# Altium footprint library DIP-CN  0607.PcbLib: 329 footprints (part 17 of 21)
Each footprint in its own frame and in the unit in brackets; x right, y up, seen from the top. Pads: shape width x height; smd on the part's side, far side on the other; paste and mask are expansions set on the pad; w line width, h text height; cw(c..) or ccw(c..) is an arc to the next point about the centre after c.
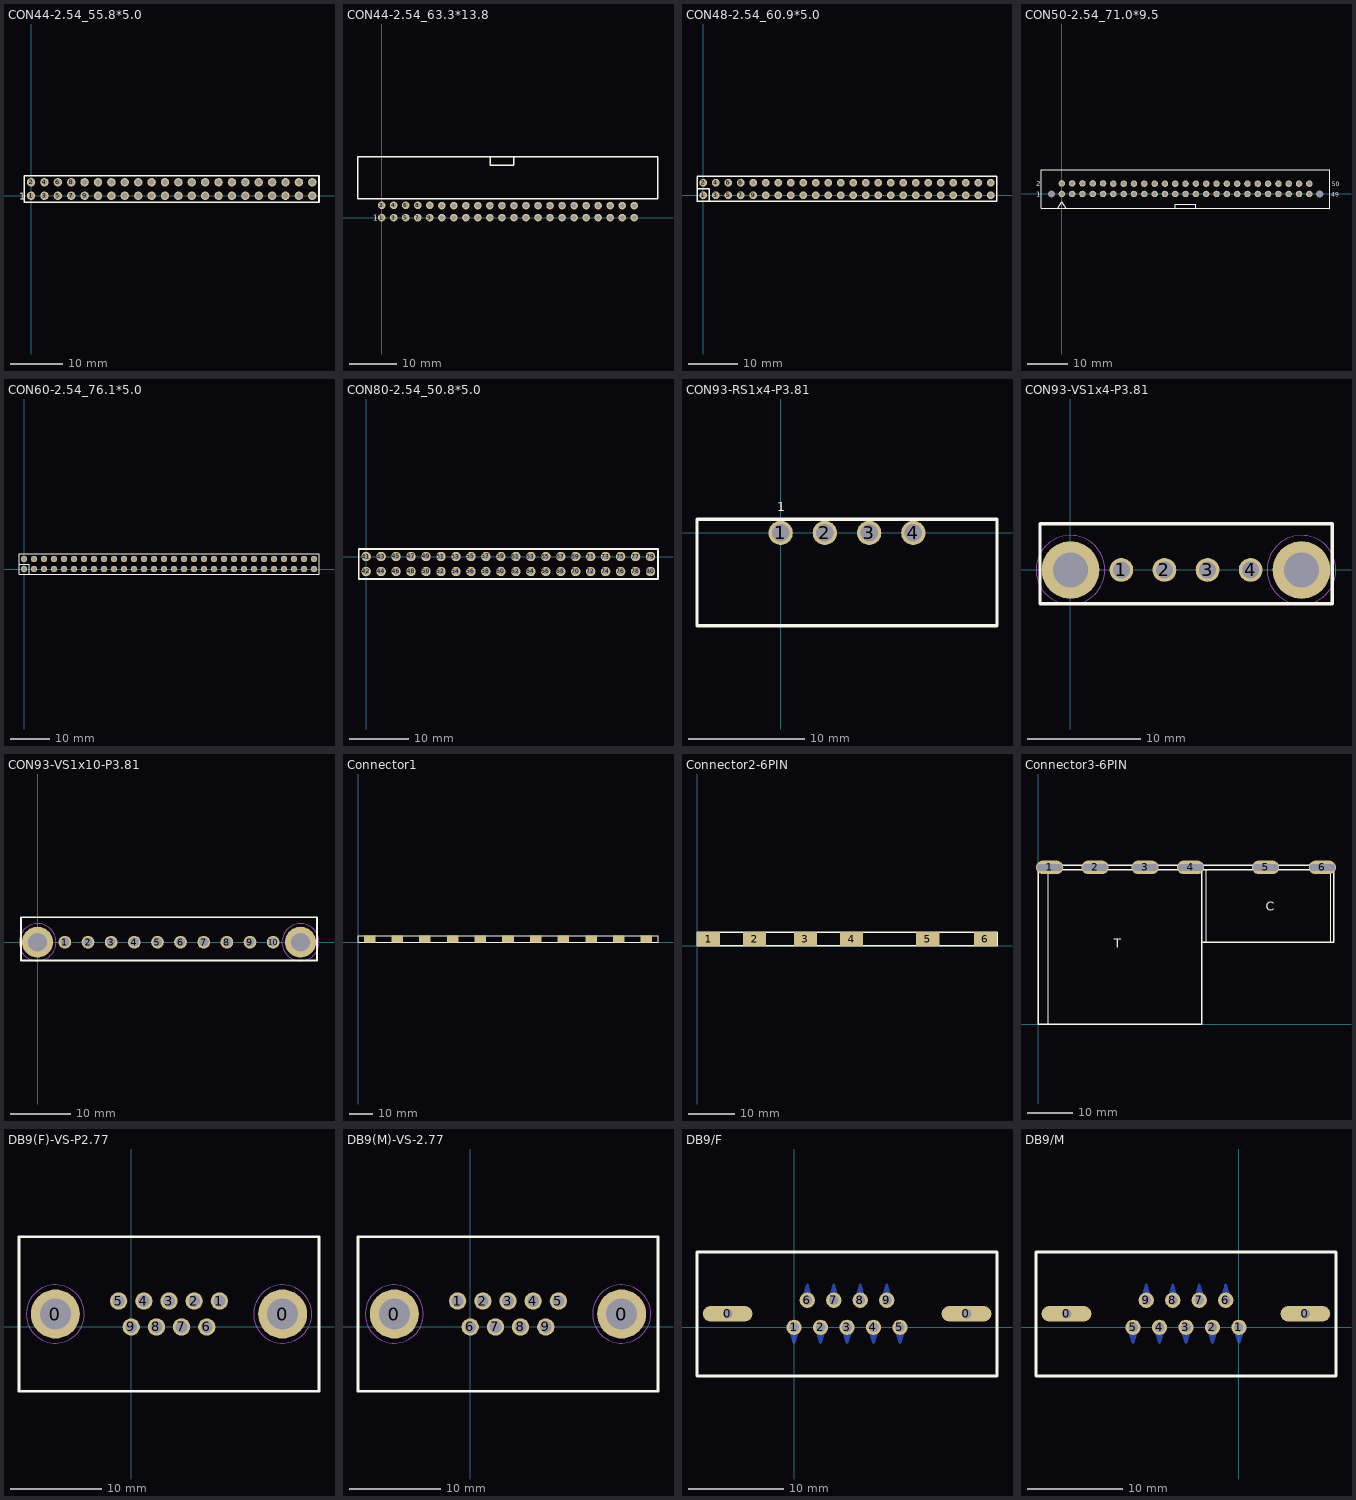
[diagram p16: the footprints below, top view; thin cyan lines are the x and y axes]

## CON44-2.54_55.8*5.0 [mm]
pads (44):
  round 1.6 hole 1: 1(0,0) 2(0,2.54) 3(2.54,0) 4(2.54,2.54) 5(5.08,0) 6(5.08,2.54) 7(7.62,0) 8(7.62,2.54) 9(10.16,0) 10(10.16,2.54) 11(12.7,0) 12(12.7,2.54) 13(15.24,0) 14(15.24,2.54) 15(17.779,-0.003) 16(17.779,2.537) 17(20.319,-0.003) 18(20.319,2.537) 19(22.859,-0.003) 20(22.859,2.537) 21(25.4,0) 22(25.4,2.54) 23(27.94,0) 24(27.94,2.54) 25(30.48,0) 26(30.48,2.54) 27(33.02,0) 28(33.02,2.54) 29(35.56,0) 30(35.56,2.54) 31(38.1,0) 32(38.1,2.54) 33(40.64,0) 34(40.64,2.54) 35(43.179,-0.003) 36(43.179,2.537) 37(45.719,-0.003) 38(45.719,2.537) 39(48.259,-0.003) 40(48.259,2.537) 41(50.8,0) 42(50.8,2.54) 43(53.34,0) 44(53.34,2.54)
TopOverlay:
  lines w0.3: -1.27,-1.27 -1.27,3.81 54.61,3.81 54.61,-1.27 -1.27,-1.27
  text "1" at -2.286,-0.762 h1.3

## CON44-2.54_63.3*13.8 [mm]
pads (44):
  round 1.6 hole 1: 1(0,0) 2(0,2.6) 3(2.54,0) 4(2.54,2.6) 5(5.08,0) 6(5.08,2.6) 7(7.62,0) 8(7.62,2.6) 9(10.16,0) 10(10.16,2.6) 11(12.7,0) 12(12.7,2.54) 13(15.24,0) 14(15.24,2.54) 15(17.78,0) 16(17.78,2.54) 17(20.32,0) 18(20.32,2.54) 19(22.86,0) 20(22.86,2.54) 21(25.4,0) 22(25.4,2.54) 23(27.94,0) 24(27.94,2.54) 25(30.48,0) 26(30.48,2.54) 27(33.02,0) 28(33.02,2.54) 29(35.56,0) 30(35.56,2.54) 31(38.1,0) 32(38.1,2.54) 33(40.64,0) 34(40.64,2.54) 35(43.18,0) 36(43.18,2.54) 37(45.72,0) 38(45.72,2.54) 39(48.26,0) 40(48.26,2.54) 41(50.8,0) 42(50.8,2.54) 43(53.34,0) 44(53.34,2.54)
TopOverlay:
  lines w0.3: 22.9,12.9 22.9,11.1 27.9,11.1 27.9,12.9 ; -5,4 58.36,4 58.36,12.9 -5,12.9 -5,4
  text "1" at -1.905,-0.635 h1.3

## CON48-2.54_60.9*5.0 [mm]
pads (48):
  round 1.6 hole 1: 1(0,0) 2(0,2.54) 3(2.54,0) 4(2.54,2.54) 5(5.08,0) 6(5.08,2.54) 7(7.62,0) 8(7.62,2.54) 9(10.16,0) 10(10.16,2.54) 11(12.7,0) 12(12.7,2.54) 13(15.24,0) 14(15.24,2.54) 15(17.78,0) 16(17.78,2.54) 17(20.32,0) 18(20.32,2.54) 19(22.86,0) 20(22.86,2.54) 21(25.4,0) 22(25.4,2.54) 23(27.94,0) 24(27.94,2.54) 25(30.48,0) 26(30.48,2.54) 27(33.02,0) 28(33.02,2.54) 29(35.56,0) 30(35.56,2.54) 31(38.1,0) 32(38.1,2.54) 33(40.64,0) 34(40.64,2.54) 35(43.18,0) 36(43.18,2.54) 37(45.72,0) 38(45.72,2.54) 39(48.26,0) 40(48.26,2.54) 41(50.8,0) 42(50.8,2.54) 43(53.34,0) 44(53.34,2.54) 45(55.88,0) 46(55.88,2.54) 47(58.42,0) 48(58.42,2.54)
TopOverlay:
  lines w0.3: -1.27,1.3 1.25,1.3 1.25,-1.245 ; -1.27,-1.27 -1.27,3.81 59.69,3.81 59.69,-1.27 -1.27,-1.27

## CON50-2.54_71.0*9.5 [mm]
pads (52):
  round 1.5 hole 1.8 unplated: 0(-2.54,0) 0(63.5,0)
  round 1.6 hole 1: 1(0,0) 2(0,2.6) 3(2.54,0) 4(2.54,2.6) 5(5.08,0) 6(5.08,2.6) 7(7.62,0) 8(7.62,2.6) 9(10.16,0) 10(10.16,2.6) 11(12.7,0) 12(12.7,2.54) 13(15.24,0) 14(15.24,2.54) 15(17.78,0) 16(17.78,2.54) 17(20.32,0) 18(20.32,2.54) 19(22.86,0) 20(22.86,2.54) 21(25.4,0) 22(25.4,2.54) 23(27.94,0) 24(27.94,2.54) 25(30.48,0) 26(30.48,2.54) 27(33.02,0) 28(33.02,2.54) 29(35.56,0) 30(35.56,2.54) 31(38.1,0) 32(38.1,2.54) 33(40.64,0) 34(40.64,2.54) 35(43.18,0) 36(43.18,2.54) 37(45.72,0) 38(45.72,2.54) 39(48.26,0) 40(48.26,2.54) 41(50.8,0) 42(50.8,2.54) 43(53.34,0) 44(53.34,2.54) 45(55.88,0) 46(55.88,2.54) 47(58.42,0) 48(58.42,2.54) 49(60.96,0) 50(60.96,2.54)
TopOverlay:
  lines w0.3: -1,-3.5 0,-1.905 1,-3.5 ; 27.92,-3.54 27.92,-2.54 33.04,-2.54 33.04,-3.54 ; -5,-3.5 65.96,-3.5 65.96,6 -5,6 -5,-3.5
  text "1" at -6.35,-0.635 h1.3
  text "50" at 66.421,1.905 h1.1
  text "2" at -6.35,1.905 h1.3
  text "49" at 66.294,-0.635 h1.1

## CON60-2.54_76.1*5.0 [mm]
pads (60):
  round 1.6 hole 1: 1(0,0) 2(0,2.54) 3(2.54,0) 4(2.54,2.54) 5(5.08,0) 6(5.08,2.54) 7(7.62,0) 8(7.62,2.54) 9(10.16,0) 10(10.16,2.54) 11(12.7,0) 12(12.7,2.54) 13(15.24,0) 14(15.24,2.54) 15(17.78,0) 16(17.78,2.54) 17(20.32,0) 18(20.32,2.54) 19(22.86,0) 20(22.86,2.54) 21(25.4,0) 22(25.4,2.54) 23(27.94,0) 24(27.94,2.54) 25(30.48,0) 26(30.48,2.54) 27(33.02,0) 28(33.02,2.54) 29(35.56,0) 30(35.56,2.54) 31(38.1,0) 32(38.1,2.54) 33(40.64,0) 34(40.64,2.54) 35(43.18,0) 36(43.18,2.54) 37(45.72,0) 38(45.72,2.54) 39(48.26,0) 40(48.26,2.54) 41(50.8,0) 42(50.8,2.54) 43(53.34,0) 44(53.34,2.54) 45(55.88,0) 46(55.88,2.54) 47(58.42,0) 48(58.42,2.54) 49(60.96,0) 50(60.96,2.54) 51(63.5,0) 52(63.499,2.54) 53(66.04,0) 54(66.04,2.54) 55(68.58,0) 56(68.58,2.54) 57(71.12,0) 58(71.12,2.54) 59(73.66,0) 60(73.66,2.54)
TopOverlay:
  lines w0.3: -1.27,1.243 1.278,1.243 1.278,-1.27 ; -1.27,-1.27 -1.27,3.81 74.928,3.81 74.928,-1.27 -1.27,-1.27

## CON80-2.54_50.8*5.0 [mm]
pads (40):
  round 1.6 hole 1: 41(0.004,0.007) 42(0.004,-2.533) 43(2.544,0.007) 44(2.544,-2.533) 45(5.083,0.01) 46(5.083,-2.53) 47(7.623,0.01) 48(7.623,-2.53) 49(10.163,0.01) 50(10.163,-2.53) 51(12.704,0.007) 52(12.704,-2.533) 53(15.244,0.007) 54(15.244,-2.533) 55(17.783,0.01) 56(17.783,-2.53) 57(20.323,0.01) 58(20.323,-2.53) 59(22.863,0.01) 60(22.863,-2.53) 61(25.41,0.006) 62(25.41,-2.534) 63(27.95,0.006) 64(27.95,-2.534) 65(30.49,0.006) 66(30.49,-2.534) 67(33.03,0.006) 68(33.03,-2.534) 69(35.57,0.006) 70(35.57,-2.534) 71(38.11,0.006) 72(38.11,-2.534) 73(40.65,0.006) 74(40.65,-2.534) 75(43.189,0.009) 76(43.189,-2.531) 77(45.729,0.009) 78(45.729,-2.531) 79(48.269,0.009) 80(48.269,-2.531)
TopOverlay:
  lines w0.3: -1.26,-3.804 49.54,-3.804 49.54,1.276 -1.26,1.276 -1.26,-3.804
BottomOverlay:
  lines w0.3: -1.38,-1.281 49.52,-1.281 ; 1.27,-3.381 1.27,0.919 ; 3.81,-3.381 3.81,0.919 ; 6.349,-3.378 6.349,0.922 ; 8.889,-3.378 8.889,0.922 ; 11.429,-3.378 11.429,0.922 ; 13.97,-3.381 13.97,0.919 ; 16.51,-3.381 16.51,0.919 ; 19.049,-3.378 19.049,0.922 ; 21.589,-3.378 21.589,0.922 ; 24.129,-3.378 24.129,0.922 ; 26.676,-3.382 26.676,0.918 ; 29.216,-3.382 29.216,0.918 ; 31.756,-3.382 31.756,0.918 ; 34.296,-3.382 34.296,0.918 ; 36.836,-3.382 36.836,0.918 ; 39.376,-3.382 39.376,0.918 ; 41.916,-3.382 41.916,0.918 ; 44.455,-3.379 44.455,0.921 ; 46.995,-3.379 46.995,0.921

## CON93-RS1x4-P3.81 [mm]
height 7.1
pads (4):
  round 2.1 hole 1.5: 1(0,0) 2(3.81,0) 3(7.62,0) 4(11.43,0)
TopOverlay:
  lines w0.3: -7.205,-8 18.635,-8 18.635,1.2 -7.205,1.2 -7.205,-8
  text "1" at -0.275,1.85 h0.8

## CON93-VS1x4-P3.81 [mm]
pads (6):
  round 2.1 hole 1.5: 1(4.5,0) 2(8.31,0) 3(12.12,0) 4(15.93,0)
  round 5.1 hole 3.1: ""(0,0) ""(20.43,0)
TopOverlay:
  lines w0.3: -2.7,-3 -2.7,4.1 23.14,4.1 23.14,-3 -2.7,-3
Mechanical7:
  circle w0.1: c20.43,0 r3.05
  circle w0.1: c0,0 r3.05

## CON93-VS1x10-P3.81 [mm]
pads (12):
  round 2.1 hole 1.5: 1(4.5,0) 2(8.31,0) 3(12.12,0) 4(15.93,0) 5(19.74,0) 6(23.55,0) 7(27.36,0) 8(31.17,0) 9(34.98,0) 10(38.79,0)
  round 5.1 hole 3.1: ""(0,0) ""(43.29,0)
TopOverlay:
  lines w0.3: -2.705,-3 -2.705,4.1 45.995,4.1 45.995,-3 -2.705,-3
Mechanical7:
  circle w0.1: c43.29,0 r3.05
  circle w0.1: c0,0 r3.05

## Connector1 [mm] "D2DControl interface"
pads (11):
  rect 5x3 all layers, no hole: 1(5,1.5) 2(17,1.5) 3(29,1.5) 4(41,1.5) 5(53,1.5) 6(65,1.5) 7(77,1.5) 8(89,1.5) 9(101,1.5) 10(113,1.5) 11(125,1.5)
TopOverlay:
  lines w0.3: 0,0 0,3 130,3 130,0 0,0

## Connector2-6PIN [mm] "D2DControl interface"
pads (6):
  rect 5x3 all layers, no hole: 1(2.5,1.5) 2(12.5,1.5) 3(23.5,1.5) 4(33.5,1.5) 5(50,1.5) 6(62.5,1.5)
TopOverlay:
  lines w0.3: 0,0 0,3 65,3 65,0 0,0

## Connector3-6PIN [mm] "D2DControl interface"
pads (6):
  oval 6x3 hole 1.5 slot 5.5 at 0 deg: 1(2.5,34.5) 2(12.5,34.5) 3(23.5,34.5) 4(33.5,34.5) 5(50,34.5) 6(62.5,34.5)
TopOverlay:
  lines w0.1: 2.15,0.25 2.15,33.975 ; 36.925,18.225 36.925,34 ; 64.35,18.075 64.35,34
  lines w0.3: 0,34 65,34 ; 36,18 65,18 65,35 0,35 0,0 36,0 36,34
  text "C" at 50.05,24.95 h2
  text "T" at 16.575,16.875 h2

## DB9(F)-VS-P2.77 [mm]
pads (11):
  round 5.4 hole 3.4: 0(-8.345,1.42) 0(16.655,1.42)
  round 1.9 hole 1.3: 1(9.695,2.84) 2(6.925,2.84) 3(4.155,2.84) 4(1.385,2.84) 5(-1.385,2.84) 6(8.31,0) 7(5.54,0) 8(2.77,0) 9(0,0)
TopOverlay:
  lines w0.3: -12.345,-7.08 20.655,-7.08 20.655,9.92 -12.345,9.92 -12.345,-7.08
Mechanical7:
  circle w0.1: c-8.345,1.42 r3.2
  circle w0.1: c16.655,1.42 r3.2

## DB9(M)-VS-2.77 [mm]
pads (11):
  round 5.4 hole 3.4: 0(-8.345,1.42) 0(16.655,1.42)
  round 1.9 hole 1.3: 1(-1.385,2.84) 2(1.385,2.84) 3(4.155,2.84) 4(6.925,2.84) 5(9.695,2.84) 6(0,0) 7(2.77,0) 8(5.54,0) 9(8.31,0)
TopOverlay:
  lines w0.3: -12.345,-7.08 20.655,-7.08 20.655,9.92 -12.345,9.92 -12.345,-7.08
Mechanical7:
  circle w0.1: c-8.345,1.42 r3.2
  circle w0.1: c16.655,1.42 r3.2

## DB9/F [mm]
pads (11):
  oval 5.2x1.6 hole 1: 0(-6.96,1.42) 0(18.04,1.42)
  round 1.6 hole 1: 1(0,0) 2(2.77,0) 3(5.54,0) 4(8.31,0) 5(11.08,0) 6(1.385,2.84) 7(4.155,2.84) 8(6.925,2.84) 9(9.695,2.84)
BottomLayer:
  lines w0.3: -0.469,-0.03 0,-1.6 ; 0,0 0,-1.6 ; 0.471,-0.056 0,-1.6 ; 0.914,2.896 1.385,4.44 ; 1.385,2.84 1.385,4.44 ; 1.854,2.87 1.385,4.44 ; 2.301,-0.03 2.77,-1.6 ; 2.77,0 2.77,-1.6 ; 3.241,-0.056 2.77,-1.6 ; 3.684,2.896 4.155,4.44 ; 4.155,2.84 4.155,4.44 ; 4.624,2.87 4.155,4.44 ; 5.071,-0.03 5.54,-1.6 ; 5.54,0 5.54,-1.6 ; 6.011,-0.056 5.54,-1.6 ; 6.454,2.896 6.925,4.44 ; 6.925,2.84 6.925,4.44 ; 7.394,2.87 6.925,4.44 ; 7.841,-0.03 8.31,-1.6 ; 8.31,0 8.31,-1.6 ; 8.781,-0.056 8.31,-1.6 ; 9.224,2.896 9.695,4.44 ; 9.695,2.84 9.695,4.44 ; 10.164,2.87 9.695,4.44 ; 10.611,-0.03 11.08,-1.6 ; 11.08,0 11.08,-1.6 ; 11.551,-0.056 11.08,-1.6
TopOverlay:
  lines w0.3: -10.16,-5.08 21.234,-5.08 21.234,7.874 -10.16,7.874 -10.16,-5.08
BottomOverlay:
  lines w0.3: -0.864,1.422 11.6,1.425 ; 1.385,-1.883 1.386,1.415 ; 2.769,1.425 2.77,4.723 ; 4.155,-1.883 4.156,1.415 ; 5.539,1.425 5.54,4.723 ; 6.925,-1.883 6.926,1.415 ; 8.309,1.425 8.31,4.723 ; 9.695,-1.883 9.696,1.415
BottomSolder:
  lines w0.3: -0.485,-0.06 0,-1.6 ; 0,0 0,-1.6 ; 0.485,-0.06 0,-1.6 ; 0.9,2.9 1.385,4.44 ; 1.385,2.84 1.385,4.44 ; 1.87,2.9 1.385,4.44 ; 1.9,2.8 1.385,4.44 ; 2.285,-0.06 2.77,-1.6 ; 2.77,0 2.77,-1.6 ; 3.255,-0.06 2.77,-1.6 ; 3.67,2.9 4.155,4.44 ; 4.155,2.84 4.155,4.44 ; 4.64,2.9 4.155,4.44 ; 5.055,-0.06 5.54,-1.6 ; 5.54,0 5.54,-1.6 ; 6.025,-0.06 5.54,-1.6 ; 6.44,2.9 6.925,4.44 ; 6.925,2.84 6.925,4.44 ; 7.41,2.9 6.925,4.44 ; 7.825,-0.06 8.31,-1.6 ; 8.31,0 8.31,-1.6 ; 8.795,-0.06 8.31,-1.6 ; 9.21,2.9 9.695,4.44 ; 9.695,2.84 9.695,4.44 ; 10.18,2.9 9.695,4.44 ; 10.595,-0.06 11.08,-1.6 ; 11.08,0 11.08,-1.6 ; 11.565,-0.06 11.08,-1.6
DrillDrawing:
  lines w0.2: -8.085,0.92 cw(c-8.085,1.42) -8.085,1.92 ; -5.885,0.92 ccw(c-5.885,1.42) -5.885,1.92 ; 16.94,0.92 cw(c16.94,1.42) 16.94,1.92 ; 19.14,0.92 ccw(c19.14,1.42) 19.14,1.92
  lines w0.3: -8.085,0.92 -5.885,0.92 ; -8.085,1.92 -5.885,1.92 ; -7.985,1.42 -6.985,1.42 -5.985,1.42 ; -6.96,1.12 -6.96,1.42 -6.96,1.72 ; 16.94,0.92 19.14,0.92 ; 16.94,1.92 19.14,1.92 ; 17.04,1.42 18.04,1.42 ; 18.04,1.12 18.04,1.42 ; 18.04,1.72 18.04,1.42 ; 19.04,1.42 18.04,1.42
  text "3.2X1.0mm" at -11.2,2.35 h1.3
  text "3.2X1.0mm" at 13.281,2.25 h1.3

## DB9/M [mm]
pads (11):
  oval 5.2x1.6 hole 1: 0(-18.04,1.42) 0(6.96,1.42)
  round 1.6 hole 1: 1(0,0) 2(-2.77,0) 3(-5.54,0) 4(-8.31,0) 5(-11.08,0) 6(-1.385,2.84) 7(-4.155,2.84) 8(-6.925,2.84) 9(-9.695,2.84)
BottomLayer:
  lines w0.3: -11.551,-0.056 -11.08,-1.6 ; -11.08,0 -11.08,-1.6 ; -10.611,-0.03 -11.08,-1.6 ; -10.164,2.87 -9.695,4.44 ; -9.695,2.84 -9.695,4.44 ; -9.224,2.896 -9.695,4.44 ; -8.781,-0.056 -8.31,-1.6 ; -8.31,0 -8.31,-1.6 ; -7.841,-0.03 -8.31,-1.6 ; -7.394,2.87 -6.925,4.44 ; -6.925,2.84 -6.925,4.44 ; -6.454,2.896 -6.925,4.44 ; -6.011,-0.056 -5.54,-1.6 ; -5.54,0 -5.54,-1.6 ; -5.071,-0.03 -5.54,-1.6 ; -4.624,2.87 -4.155,4.44 ; -4.155,2.84 -4.155,4.44 ; -3.684,2.896 -4.155,4.44 ; -3.241,-0.056 -2.77,-1.6 ; -2.77,0 -2.77,-1.6 ; -2.301,-0.03 -2.77,-1.6 ; -1.854,2.87 -1.385,4.44 ; -1.385,2.84 -1.385,4.44 ; -0.914,2.896 -1.385,4.44 ; -0.471,-0.056 0,-1.6 ; 0,0 0,-1.6 ; 0.469,-0.03 0,-1.6
TopOverlay:
  lines w0.3: -21.234,-5.08 10.16,-5.08 10.16,7.874 -21.234,7.874 -21.234,-5.08
BottomOverlay:
  lines w0.3: -11.6,1.425 0.864,1.422 ; -9.696,1.415 -9.695,-1.883 ; -8.31,4.723 -8.309,1.425 ; -6.926,1.415 -6.925,-1.883 ; -5.54,4.723 -5.539,1.425 ; -4.156,1.415 -4.155,-1.883 ; -2.77,4.723 -2.769,1.425 ; -1.386,1.415 -1.385,-1.883
BottomSolder:
  lines w0.3: -11.565,-0.06 -11.08,-1.6 ; -11.08,0 -11.08,-1.6 ; -10.595,-0.06 -11.08,-1.6 ; -10.18,2.9 -9.695,4.44 ; -9.695,2.84 -9.695,4.44 ; -9.21,2.9 -9.695,4.44 ; -8.795,-0.06 -8.31,-1.6 ; -8.31,0 -8.31,-1.6 ; -7.825,-0.06 -8.31,-1.6 ; -7.41,2.9 -6.925,4.44 ; -6.925,2.84 -6.925,4.44 ; -6.44,2.9 -6.925,4.44 ; -6.025,-0.06 -5.54,-1.6 ; -5.54,0 -5.54,-1.6 ; -5.055,-0.06 -5.54,-1.6 ; -4.64,2.9 -4.155,4.44 ; -4.155,2.84 -4.155,4.44 ; -3.67,2.9 -4.155,4.44 ; -3.255,-0.06 -2.77,-1.6 ; -2.77,0 -2.77,-1.6 ; -2.285,-0.06 -2.77,-1.6 ; -1.9,2.8 -1.385,4.44 ; -1.87,2.9 -1.385,4.44 ; -1.385,2.84 -1.385,4.44 ; -0.9,2.9 -1.385,4.44 ; -0.485,-0.06 0,-1.6 ; 0,0 0,-1.6 ; 0.485,-0.06 0,-1.6
DrillDrawing:
  lines w0.2: -19.14,0.92 cw(c-19.14,1.42) -19.14,1.92 ; -16.94,0.92 ccw(c-16.94,1.42) -16.94,1.92 ; 5.885,0.92 cw(c5.885,1.42) 5.885,1.92 ; 8.085,0.92 ccw(c8.085,1.42) 8.085,1.92
  lines w0.3: -19.14,0.92 -16.94,0.92 ; -19.14,1.92 -16.94,1.92 ; -19.04,1.42 -18.04,1.42 ; -18.04,1.12 -18.04,1.42 ; -18.04,1.72 -18.04,1.42 ; -17.04,1.42 -18.04,1.42 ; 5.885,0.92 8.085,0.92 ; 5.885,1.92 8.085,1.92 ; 5.985,1.42 6.985,1.42 7.985,1.42 ; 6.96,1.12 6.96,1.42 6.96,1.72
  text "3.2X1.0mm" at 2.25,2.25 h1.3
  text "3.2X1.0mm" at -22.5,2.25 h1.3